# Altium schematic symbol library SCH - DIODES - TVS - SEMTECH RCLAMP0524PATCT.SCHLIB: 1 symbol
Pins are listed as number, name and electrical type; pins without a type are passive.

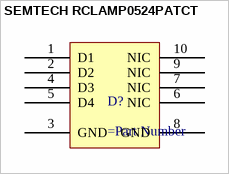
[diagram p0: symbol SEMTECH RCLAMP0524PATCT]

## SEMTECH RCLAMP0524PATCT
designator D?
pins: 1 D1, 2 D2, 3 GND, 4 D3, 5 D4, 6 NIC, 7 NIC, 8 GND, 9 NIC, 10 NIC